# Altium schematic symbol library Inductors.SchLib: 40 symbols
Pins are listed as number, name and electrical type; pins without a type are passive.

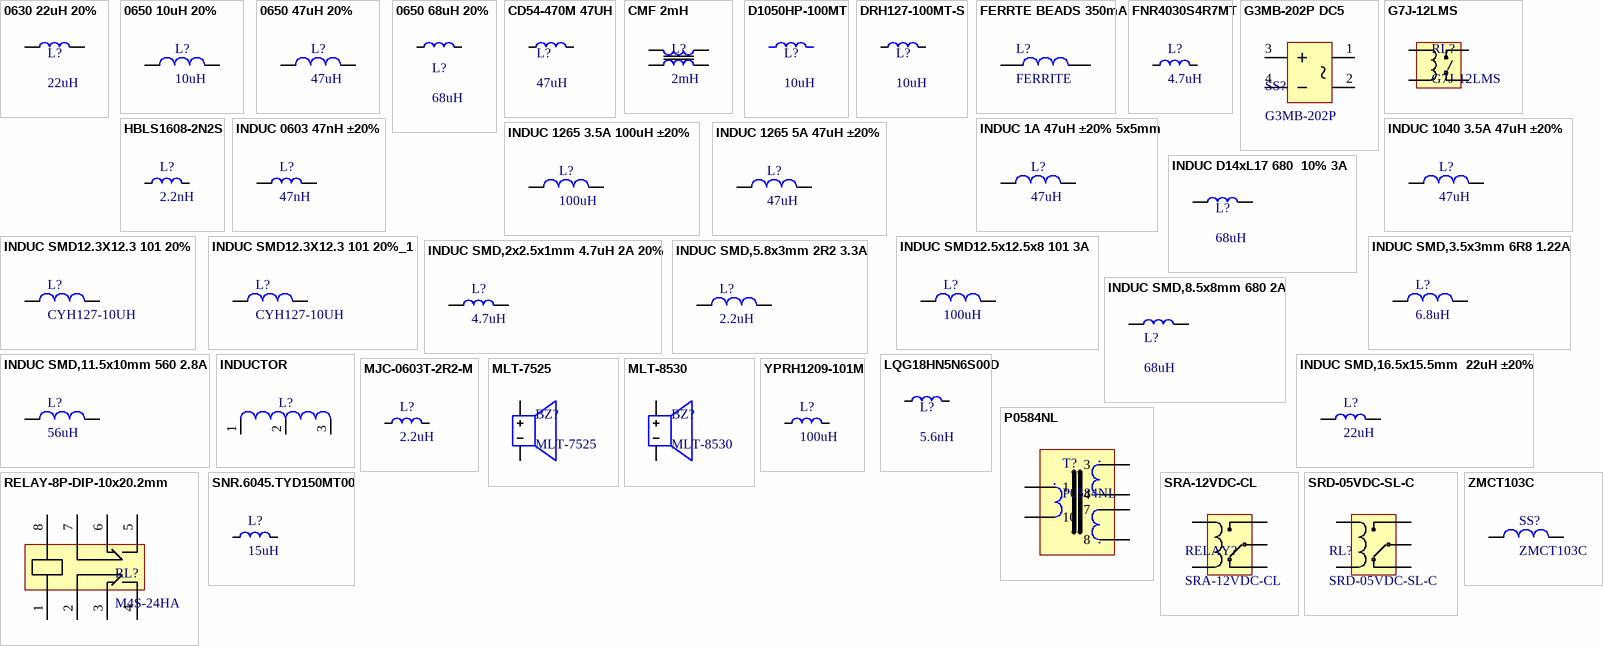
[diagram p0: symbols 0630 22uH 20% to ZMCT103C]

## 0630 22uH 20%
designator L?, comment 22uH
2.5A 22uH Integrated molded inductor ±20% 3.1A 0630 Power Inductors ROHS; Manufacturer: DMBJ; Mfr.Part #: CXP0630-220M-AG(22uh); Name: 0630-22uH; So_Chan_Dan: 2; So_Chan_Cam: 0; Package: 0630
footprint 0630
pins: 1, 2

## 0650 10uH 20%
designator L?, comment 10uH
7A ±20% 10uH Integrated molded inductor SMD,6.6x7mm Power Inductors ROHS; Manufacturer: DMBJ; Mfr.Part #: CXP0650-100M-AG(10uh); Name: 0650 10uH 20%; So_Chan_Dan: 2; So_Chan_Cam: 0; Package: 0650
footprint 0650
pins: 1, 2

## 0650 47uH 20%
designator L?, comment 47uH
2A 2.5A ±20% Integrated molded inductor 47uH 0650 Power Inductors ROHS; Manufacturer: DMBJ; Mfr.Part #: CXP0650-470M-AG(47uh); Name: 0650 47uH 20%; So_Chan_Dan: 2; So_Chan_Cam: 0; Package: 0650
footprint 0650
footprint SMD,4x4mm
pins: 1, 2

## 0650 68uH 20%
designator L?, comment 68uH
1.2A 68uH Molding Choke ±20% 2.2A 0650 Power Inductors ROHS; Manufacturer: DMBJ; Mfr.Part #: CXP0650-680M-AG(68uh); Name: 0650-68uH; So_Chan_Dan: 2; So_Chan_Cam: 0; Package: 0650
footprint 0650 (SMD,7.1x6.6mm)
pins: 1, 2

## CD54-470M 47UH
designator L?, comment 47uH
720mA 47uH ±20% SMD,5.8x5.2mm Power Inductors ROHS; Manufacturer: DMBJ; Mfr.Part #: CD54-470M 47UH; Package: SMD,5.8x5.2mm
footprint CD54 (SMD,5.8x5.2mm)
pins: 1, 2

## CMF 2mH
designator L?, comment 2mH
2mH 2 DIP-4P,21x12.5mm Common Mode Filters ROHS; Manufacturer: XR; Mfr.Part #: XRT16128B-202VFR1L; Name: INDUC 0603 10uH 90mA 20%; So_Chan_Dan: 0; So_Chan_Cam: 4; Package: DIP-4P,21x12.5mm; Type: Common mode filters
footprint DIP-4P,21x12.5mm
pins: 1, 2, 3, 4

## D1050HP-100MT
designator L?, comment 10uH
10uH Molded Inductor ±20% 7.5A SMD,11.6x10.1mm Power Inductors ROHS; Manufacturer: DEYAN; Mfr.Part #: D1050HP-100MT; Package: SMD,11.6x10.1mm; LCSC Part #: C41410648
footprint SMD,11.6x10.1mm
pins: 1, 2

## DRH127-100MT-S
designator L?, comment 10uH
6A 10uH Magnetic Shielded Inductor ±20% 9A SMD,12.5x12.5mm Power Inductors ROHS; Manufacturer: DEYAN; Mfr.Part #: DRH127-100MT-S; Package: SMD,12.5x12.5mm; LCSC Part #: C41410710
footprint SMD,12.5x12.5x8mm
pins: 1, 2

## FERRTE BEADS 350mA
designator L?, comment FERRITE
500mΩ ±25% 600Ω@100MHz 0603 Ferrite Beads ROHS; Manufacturer: TAI-TECH; Mfr.Part #: FCM1608KF-601T03; Name: FERRTE BEADS 350mA 500mΩ 0603; So_Chan_Cam: 0; So_Chan_Dan: 2; Package: 0603
footprint INDUC-0603
pins: 1, 2

## FNR4030S4R7MT
designator L?, comment 4.7uH
2.3A 4.7uH Shielded Power Inductor ±20% 3.2A SMD,4x4mm Power Inductors ROHS; Manufacturer: Me-TECHcjiang (Changjiang Microelectronics Tech); Mfr.Part #: FNR4030S4R7MT; Package: SMD,4x4mm
footprint SMD,4x4mm
pins: 1, 2

## G3MB-202P DC5
designator SS?, comment G3MB-202P
Solid State Relays - PCB Mount SOLID STATE RELAY; Manufacturer: Omron Automation and Safety; Mfr.Part #: G3MB-202P DC5; Package: Plugin; Name: G3MB-202P DC5
footprint G3MB-202P
pins: 1 ~, 2 ~, 3 +, 4 _

## G7J-12LMS
designator RL?
Plugin,7.2x20.5mm Power Relays ROHS; Manufacturer: STEIPU; So_Chan_Cam: 4; So_Chan_Dan: 0; Name: G7J-12LMS; Mfr.Part #: G7J-12LMS; Package: Plugin,7.2x20.5mm
footprint Plugin,7.2x20.5mm
pins: 1, 2 100, 3, 4

## HBLS1608-2N2S
designator L?, comment 2.2nH
500mA 2.2nH 100mΩ 0603 Inductors (SMD) ROHS; Manufacturer: HYHONGYEX; Mfr.Part #: HBLS1608-2N2S; Package: 0630
footprint INDUC-0603
pins: 1, 2

## INDUC 1A 47uH ±20% 5x5mm
designator L?, comment 47uH
1A 47uH ±20% 1.1A SMD,5x5mm Power Inductors ROHS; Manufacturer: Sunlord; Mfr.Part #: SWPA5040S470MT; Name: INDUC 1A 47uH ±20% 5x5mm; So_Chan_Cam: 0; So_Chan_Dan: 2; Package: SMD,5x5mm
footprint SMD,5x5mm
pins: 1, 2

## INDUC 0603 47nH ±20%
designator L?, comment 47nH
200mA 47nH ±20% 100mΩ 0603 Inductors (SMD) ROHS; Manufacturer: TDK; Mfr.Part #: MLF1608D47NMTA00; Name: INDUC 0603 47nH ±20%; So_Chan_Dan: 2; So_Chan_Cam: 0; Package: 0603
footprint CAP-0603
pins: 1, 2

## INDUC 1040 3.5A 47uH ±20%
designator L?, comment 47uH
47uH Molding Choke ±20% 5A SMD,10.2x11mm Power Inductors ROHS; Manufacturer: DMBJ; Mfr.Part #: CXP1050-470M-AG(47uh); Name: INDUC 1040 3.5A 47uH ±20%; So_Chan_Cam: 0; So_Chan_Dan: 2; Package: SMD,10.2x11mm
footprint SMD,10.2x11mm-(1040)
pins: 1, 2

## INDUC 1265 3.5A 100uH ±20%
designator L?, comment 100uH
3.5A 100uH Integrated molded inductor ±20% 4A SMD,13.5x12.6mm Power Inductors ROHS; Manufacturer: Magnetsyc; Mfr.Part #: FSA1365-101MT; Name: INDUC 1265 3.5A 100uH ±20%; So_Chan_Cam: 0; So_Chan_Dan: 2; Package: SMD,13.5x12.6mm
footprint SMD,13.5x12.6mm-1265
pins: 1, 2

## INDUC 1265 5A 47uH ±20%
designator L?, comment 47uH
5A 47uH Molding Choke ±20% 5.5A SMD,13.5x12.6mm Power Inductors ROHS; Manufacturer: XR; Mfr.Part #: XR1265-470M; Name: INDUC 1040 3.5A 47uH ±20%; So_Chan_Cam: 0; So_Chan_Dan: 2; Package: SMD,13.5x12.6mm
footprint SMD,13.5x12.6mm-1265
pins: 1, 2

## INDUC D14xL17 680  10% 3A
designator L?, comment 68uH
68 µH Unshielded Inductor 3 A 68mOhm Max Radial, Vertical Cylinder; Manufacturer: TDK; Mfr.Part #: TSL1315S-680K3R0-PF; Name: INDUC D14xL17 680  10% 3A; So_Chan_Dan: 0; So_Chan_Cam: 2; Package: TSL1315
footprint TSL1315
pins: 1, 2

## INDUC SMD12.3X12.3 101 20%
designator L?, comment CYH127-10UH
5.4A 10uH ±20% 23.4mΩ SMD,12.3x12.3mm Inductors (SMD) ROHS; MF: Murata; MP: LQM18DN100M70B; Value: *; Price: None; Package: 0603 Murata; Check_prices: https://www.snapeda.com/parts/LQM18DN100M70B/Murata/view-part/4901244/?ref=eda; SnapEDA_Link: https://www.snapeda.com/parts/LQM18DN100M70B/Murata/view-part/4901244/?ref=snap; Availability: Bad
footprint SMD,12.3X12.3MM
pins: 1, 2

## INDUC SMD12.3X12.3 101 20%_1
designator L?, comment CYH127-10UH
5.4A 10uH ±20% 23.4mΩ SMD,12.3x12.3mm Inductors (SMD) ROHS; MF: Murata; MP: LQM18DN100M70B; Value: *; Price: None; Package: 0603 Murata; Check_prices: https://www.snapeda.com/parts/LQM18DN100M70B/Murata/view-part/4901244/?ref=eda; SnapEDA_Link: https://www.snapeda.com/parts/LQM18DN100M70B/Murata/view-part/4901244/?ref=snap; Availability: Bad
footprint SMD,12.3X12.3MM
pins: 1, 2

## INDUC SMD12.5x12.5x8 101 3A
designator L?, comment 100uH
3A 100uH 3.5A SMD Power Inductors ROHS; Manufacturer: FANGCHENG; Mfr.Part #: FC-DR1207-101MT; Name: INDUC SMD12.5x12.5x8 101 3A; So_Chan_Dan: 2; So_Chan_Cam: 0; Package: SMD,12.5x12.5x8mm
footprint SMD,12.5x12.5x8mm
pins: 1, 2

## INDUC SMD,2x2.5x1mm 4.7uH 2A 20%
designator L?, comment 4.7uH
2A 4.7uH Integrated molded inductor ±20% 2.6A SMD,2x2.5mm Power Inductors ROHS; Manufacturer: cjiang (Changjiang Microelectronics Tech); Mfr.Part #: FTC252010S4R7MBCA; Name: INDUC SMD,2x2.5x1mm 4.7uH 2A 20%; So_Chan_Dan: 2; So_Chan_Cam: 0; Package: SMD,2x2.5mm
footprint SMD,2x2.5x1mm
pins: 1, 2

## INDUC SMD,3.5x3mm 6R8 1.22A
designator L?, comment 6.8uH
1.22A 6.8uH ±20% SMD,3.5x3mm Power Inductors ROHS; Manufacturer: DMBJ; Mfr.Part #: CD32-6R8M 6.8UH; Name: INDUC SMD,5.8x5.2mm 470 720mA; So_Chan_Dan: 2; So_Chan_Cam: 0; Package: SMD,3.5x3mm
footprint CD32 (SMD,3.5x3mm)
pins: 1, 2

## INDUC SMD,5.8x3mm 2R2 3.3A
designator L?, comment 2.2uH
2.2uH ±30% 2220 Power Inductors ROHS; Manufacturer: GLE; Mfr.Part #: GCCD5830N-2R2N01; Name: INDUC SMD,5.8x3mm 2R2 3.3A; So_Chan_Dan: 2; So_Chan_Cam: 0; Package: SMD,5.8x3mm
footprint SMD,D5.8Xl3mm
pins: 1, 2

## INDUC SMD,8.5x8mm 680 2A
designator L?, comment 68uH
68uH ±20% SMD,8.5x8mm Power Inductors ROHS; Manufacturer: LanTu Micro; Mfr.Part #: SMS0850-680MT; Name: INDUC SMD,8.5x8mm 680 2A; So_Chan_Dan: 2; So_Chan_Cam: 0; Package: SMD,8.5x8mm
pins: 1, 2

## INDUC SMD,11.5x10mm 560 2.8A
designator L?, comment 56uH
2.8A 56uH Integrated molded inductor ±20% 3.2A SMD,11.5x10mm Power Inductors ROHS; Manufacturer: cjiang (Changjiang Microelectronics Tech); Mfr.Part #: FXL1040-560-M; Name: INDUC SMD,11.5x10mm 560 2.8A; So_Chan_Dan: 2; So_Chan_Cam: 0; Package: SMD,11.5x10mm
footprint SMD,11.5x10mm-(1040)
footprint SMD,10.2x11mm-(1040)
pins: 1, 2

## INDUC SMD,16.5x15.5mm  22uH ±20%
designator L?, comment 22uH
22 µH Shielded Inductor 16 A 15.8mOhm Max Nonstandard; Manufacturer: Bourns Inc.; Mfr.Part #: SRP1510CA-220M; So_Chan_Dan: 2; So_Chan_Cam: 0; Name: INDUC SMD,16.5x15.5mm  22uH ±20%; Package: SMD,16.5x15.5mm
footprint SMD16.5x15.5mm
pins: 1, 2

## INDUCTOR
designator L?
footprint 8X10
pins: 1, 2, 3

## LQG18HN5N6S00D
designator L?, comment 5.6nH
800mA 5.6nH 200mΩ 0603 Inductors (SMD) ROHS; Manufacturer: Murata Electronics; Mfr.Part #: LQG18HN5N6S00D; Package: C441735; LCSC Part #: C41410710
footprint INDUC-0603
pins: 1, 2

## MJC-0603T-2R2-M
designator L?, comment 2.2uH
9.5A 2.2uH ±20% SMD,7.1x6.6mm Power In9.5A 2.2uH ±20% SMD,7.1x6.6mm Power Inductors ROHS / ductors ROHS; Manufacturer: Me-TECH; Mfr.Part #: MJC-0603T-2R2-M; Package: SMD,7.1x6.6mm
footprint 0650 (SMD,7.1x6.6mm)
pins: 1, 2

## MLT-7525
designator BZ?
80dB Passive (external drive) Electromagnetic Type 2.7kHz SMD,7.5x7.5mm Buzzers ROHS; Manufacturer: Jiangsu Huaneng Elec; Mfr.Part #: MLT-7525; Name: MLT-7525; Package: SMD,7.5x7.5mm
footprint SMD,7.5x7.5mm
pins: 1 +, 2 -

## MLT-8530
designator BZ?
80dB Passive (external drive) Electromagnetic Type 2.7kHz SMD,8.5x8.5mm Buzzers ROHS; Manufacturer: Jiangsu Huaneng Elec; Mfr.Part #: MLT-8530; Name: MLT-8530; Package: SMD,8.5x8.5mm
footprint SMD,8.5x8.5mm
pins: 1 +, 2 -

## P0584NL
designator T?
1:1:1 Plugin,20.6x12.2mm Pulse Transformers(LAN) ROHS; Manufacturer: Pulse Elec; So_Chan_Dan: 6; So_Chan_Cam: 0; Mfr.Part #: P0584NL; Name: P0584NL; Package: Plugin,20.6x12.2mm
footprint Plugin,20.6x12.2mm
pins: 1, 3, 4, 7, 8, 10

## RELAY-8P-DIP-10x20.2mm
designator RL?, comment M4S-24HA
2A 24V 30V@DC DPDT (2 Form C) 2A@125VAC DIP,10x20.2mm Signal Relays ROHS
footprint DIP,10x20.2mm
pins: 1, 2 1, 3, 4, 5, 6, 7, 8

## SNR.6045.TYD150MT00
designator L?, comment 15uH
1.9A 15uH ±20% 2.5A SMD,6x6mm Power Inductors ROHS; Manufacturer: SOREDE; Mfr.Part #: SNR.6045.TYD150MT00; Package: SMD,6x6mm; LCSC Part #: C5122846
footprint SMD,6x6x4.5mm
pins: 1, 2

## SRA-12VDC-CL
designator RELAY?
125V@AC 12V 10A One Conversion: 1C (SPDT-Conversion) Plugin,12.4x16mm Power Relays ROHS; Manufacturer: Ningbo Songle Relay; So_Chan_Cam: 5; So_Chan_Dan: 0; Name: SRA-12VDC-CL; Mfr.Part #: SRA-12VDC-CL; Package: Plugin,12.4x16mm
footprint Plugin,12.4x16mm
pins: 1, 2, 3, 4, 5

## SRD-05VDC-SL-C
designator RL?
250V@AC 5V 15A One Conversion: 1C (SPDT-Conversion) Plugin,15.6x19.2mm Power Relays ROHS; Manufacturer: Ningbo Songle Relay; So_Chan_Cam: 5; So_Chan_Dan: 0; Name: SRD-05VDC-SL-C; Mfr.Part #: SRD-05VDC-SL-C; Package: Plugin,15.6x19.2mm
footprint Plugin,15.6x19.2mm
pins: 1, 2, 3, 4, 5

## YPRH1209-101M
designator L?, comment 100uH
2.31A 100uH Shielded Power Inductor ±20% SMD,12x12mm Power Inductors ROHS; Manufacturer: YJYCOIN; Mfr.Part #: YPRH1209-101M; Package: SMD,12x12mm
footprint SMD,12X12MM-INDUCTOR
pins: 1, 2

## ZMCT103C
designator SS?
Plugin Current Transformers ROHS
footprint Plugin
pins: 1, 2